# Altium schematic symbol library diodesInc.SchLib: 2 symbols
Pins are listed as number, name and electrical type; pins without a type are passive.

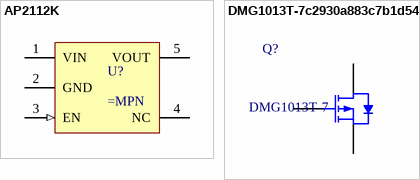
[diagram p0: symbols AP2112K to DMG1013T-7c2930a883c7b1d54]

## AP2112K
designator U?
IC REG LINEAR SOT25; Manufacturer: Diodes Incorporated
pins: 1 VIN (power), 2 GND (power), 3 EN (in), 4 NC, 5 VOUT (power)

## DMG1013T-7c2930a883c7b1d54
designator Q?, comment DMG1013T-7
P-Channel SOT-523; Lead-Free Status: Lead Free; RoHS: Compliant; Lifecycle Status: Active; Polarity: P-Channel; Manufacturer Part Number: DMG1013T-7; REACH SVHC Compliance: No SVHC; Octopart URL: http://octopart.com/dmg1013t-7-diodes+inc.-17947534; OctopartID: c2930a883c7b1d54
footprint SOT50P175X90-3N
pins: 1 G, 2 S, 3 D